# Altium footprint library SamacSys.PcbLib: 35 footprints (part 1 of 3)
Each footprint in its own frame and in the unit in brackets; x right, y up, seen from the top. Pads: shape width x height; smd on the part's side, far side on the other; paste and mask are expansions set on the pad; w line width, h text height; cw(c..) or ccw(c..) is an arc to the next point about the centre after c.
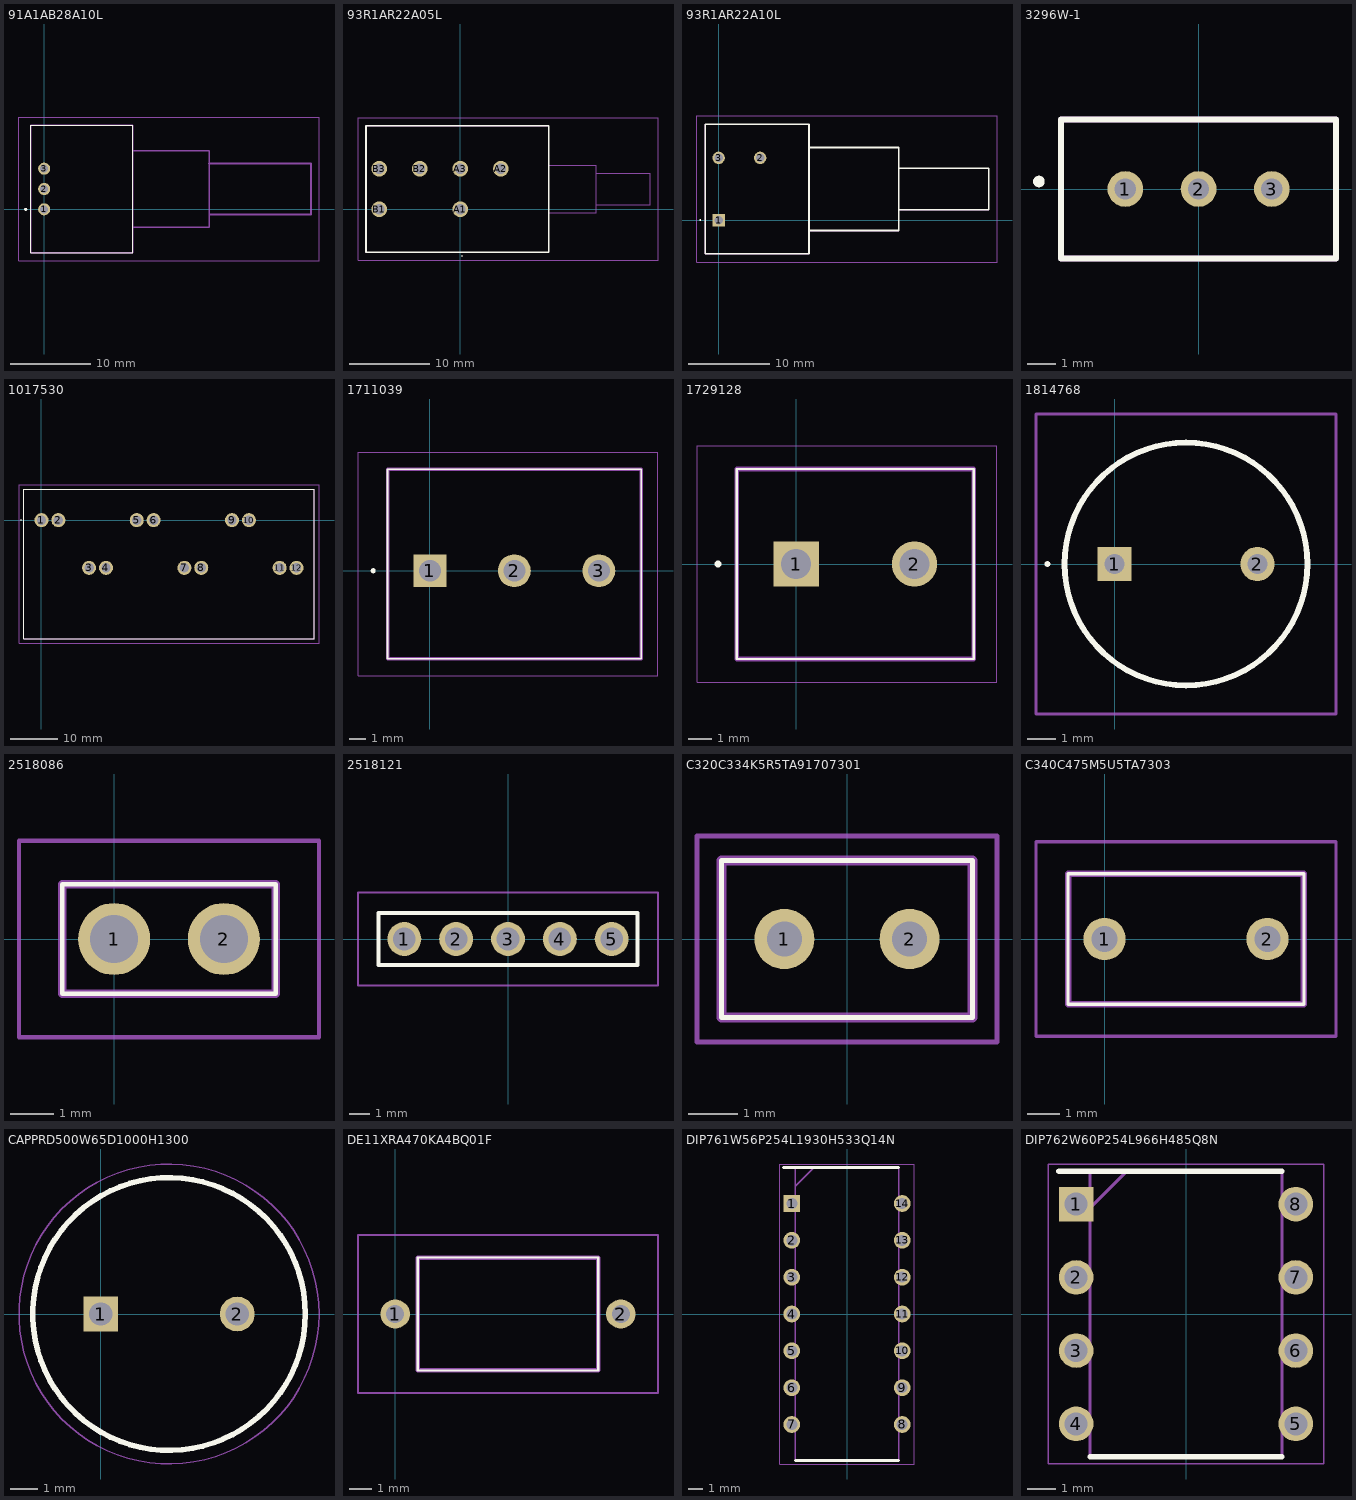
[diagram p0: the footprints below, top view; thin cyan lines are the x and y axes]

## 91A1AB28A10L [mm]
pads (3):
  round 1.515 hole 1.01: 1(0,0) 2(0,2.54) 3(0,5.08)
Top Overlay:
  lines w0.1: -1.65,-5.4 -1.65,10.48 11.05,10.48 11.05,-5.4 -1.65,-5.4
  lines w0.2: -2.3,-0.1 ccw(c-2.3,0) -2.3,0.1 ccw(c-2.3,0) -2.3,-0.1
Mechanical 13:
  lines w0.2: 11.05,-2.225 20.58,-2.225 20.58,7.305 11.05,7.305 ; 20.55,5.715 33.275,5.715 33.275,-0.635 20.58,-0.635 ; -1.65,-5.4 -1.65,10.48 11.05,10.48 11.05,-5.4 -1.65,-5.4
Mechanical 15:
  lines w0.1: -3.135,-6.4 -3.135,11.48 34.275,11.48 34.275,-6.4 -3.135,-6.4
3D body "91A1A-B28-A10L.stp": height 18.1, standoff -14.59, extent -1.895,-5.397 33.03,10.477

## 93R1AR22A05L [mm]
pads (6):
  round 1.965 hole 1.31: A1(0,0) A2(5.08,5.08) A3(0,5.08) B1(-10.16,0) B2(-5.08,5.08) B3(-10.16,5.08)
Top Overlay:
  lines w0.1: 0.15,-5.86 cw(c0.2,-5.86) 0.25,-5.86 cw(c0.2,-5.86) 0.15,-5.86
  lines w0.2: -11.81,-5.4 11.05,-5.4 11.05,10.48 -11.81,10.48 -11.81,-5.4
Mechanical 13:
  lines w0.1: 11.05,-0.46 17.05,-0.46 17.05,5.54 11.05,5.54 ; 17.05,0.54 23.75,0.54 23.75,4.54 17.05,4.54 ; -11.81,-5.4 11.05,-5.4 11.05,10.48 -11.81,10.48 -11.81,-5.4
Mechanical 15:
  lines w0.1: -12.81,-6.4 24.75,-6.4 24.75,11.48 -12.81,11.48 -12.81,-6.4

## 93R1AR22A10L [mm]
pads (3):
  rect 1.515x1.515 hole 1.01: 1(0,0)
  round 1.515 hole 1.01: 2(5.08,7.62) 3(0,7.62)
Top Overlay:
  lines w0.1: -2.3,0 ccw(c-2.25,0) -2.2,0 ccw(c-2.25,0) -2.3,0
  lines w0.2: 11.05,-1.27 22.05,-1.27 22.05,8.89 11.05,8.89 ; 22.05,1.27 33.05,1.27 33.05,6.35 22.05,6.35 ; -1.65,-4.13 11.05,-4.13 11.05,11.75 -1.65,11.75 -1.65,-4.13
Mechanical 13:
  lines w0.1: 11.05,-1.27 22.05,-1.27 22.05,8.89 11.05,8.89 ; 22.05,1.27 33.05,1.27 33.05,6.35 22.05,6.35 ; -1.65,-4.13 11.05,-4.13 11.05,11.75 -1.65,11.75 -1.65,-4.13
Mechanical 15:
  lines w0.1: -2.65,-5.13 34.05,-5.13 34.05,12.75 -2.65,12.75 -2.65,-5.13

## 3296W-1 [mm]
pads (3):
  round 1.24 hole 0.74: 1(-2.54,0) 2(0,0) 3(2.54,0)
Top Overlay:
  circle w0.2: c-5.536,0.26 r0.1
  lines w0.2: -4.765,-2.41 -4.765,2.41 4.765,2.41 4.765,-2.41 -4.765,-2.41
Mechanical 13:
  lines w0.2: -4.765,-2.41 -4.765,2.41 4.765,2.41 4.765,-2.41 -4.765,-2.41
3D body "3296W-1-101LF.stp": height 11.55, standoff -3.01, extent -4.775,-2.476 4.775,2.35

## 1017530 [mm]
pads (12):
  round 3 hole 2: 1(0,0) 2(3.6,0) 3(10.16,-10.16) 4(13.76,-10.16) 5(20.32,0) 6(23.92,0) 7(30.48,-10.16) 8(34.08,-10.16) 9(40.64,0) 10(44.24,0) 11(50.8,-10.16) 12(54.4,-10.16)
Top Overlay:
  lines w0.1: -4.4,0 cw(c-4.35,0) -4.3,0 cw(c-4.35,0) -4.4,0
  lines w0.2: -3.79,-25.3 -3.79,6.6 58.19,6.6 58.19,-25.3 -3.79,-25.3
Mechanical 13:
  lines w0.1: -3.79,-25.3 -3.79,6.6 58.19,6.6 58.19,-25.3 -3.79,-25.3
Mechanical 15:
  lines w0.1: -4.79,-26.3 -4.79,7.6 59.19,7.6 59.19,-26.3 -4.79,-26.3
3D body "1017530.stp": height 31.7, standoff -3, extent -3.79,-25.3 58.19,6.6

## 1711039 [mm]
pads (3):
  rect 1.95x1.95 hole 1.3: 1(0,0)
  round 1.95 hole 1.3: 2(5,0) 3(10,0)
Top Overlay:
  circle w0.2: c-3.35,0 r0.05
  lines w0.1: -2.5,-5.2 12.5,-5.2 12.5,6 -2.5,6 -2.5,-5.2
Mechanical 13:
  lines w0.2: -2.5,-5.2 12.5,-5.2 12.5,6 -2.5,6 -2.5,-5.2
Mechanical 15:
  lines w0.05: -4.25,-6.2 13.5,-6.2 13.5,7 -4.25,7 -4.25,-6.2
3D body "1711039.stp": height 18.53, standoff -4.47, extent -2.43,-5.727 13.14,5.473

## 1729128 [mm]
pads (2):
  rect 1.95x1.95 hole 1.3: 1(0,0)
  round 1.95 hole 1.3: 2(5.08,0)
Top Overlay:
  circle w0.2: c-3.35,0 r0.05
  lines w0.1: -2.54,-4.075 -2.54,4.075 7.62,4.075 7.62,-4.075 -2.54,-4.075
Mechanical 13:
  lines w0.2: -2.54,-4.075 -2.54,4.075 7.62,4.075 7.62,-4.075 -2.54,-4.075
Mechanical 15:
  lines w0.05: -4.25,-5.075 -4.25,5.075 8.62,5.075 8.62,-5.075 -4.25,-5.075
3D body "1729128.stp": height 10.32, standoff -3.18, extent -2.82,-4.05 7.74,4.05

## 1814768 [mm]
pads (2):
  rect 1.2x1.2 hole 0.7: 1(0,0)
  round 1.2 hole 0.7: 2(5,0)
Top Overlay:
  lines w0.1: -2.4,0 cw(c-2.35,0) -2.3,0 cw(c-2.35,0) -2.4,0
  lines w0.2: -1.75,0 ccw(c2.5,0) 6.75,0 ccw(c2.5,0) -1.75,0
Mechanical 13:
  lines w0.1: -1.75,0 ccw(c2.5,0) 6.75,0 ccw(c2.5,0) -1.75,0
Mechanical 15:
  lines w0.1: -2.75,-5.25 7.75,-5.25 7.75,5.25 -2.75,5.25 -2.75,-5.25
3D body "181-4768.stp": height 13.1, standoff -5, extent -1.75,-4.238 6.75,4.238

## 2518086 [mm]
pads (2):
  round 1.665 hole 1.11: 1(0,0) 2(2.54,0)
Top Overlay:
  lines w0.1: -1.2,-1.27 3.74,-1.27 3.74,1.27 -1.2,1.27 -1.2,-1.27
Mechanical 13:
  lines w0.2: -1.2,-1.27 3.74,-1.27 3.74,1.27 -1.2,1.27 -1.2,-1.27
Mechanical 15:
  lines w0.1: -2.2,-2.27 4.74,-2.27 4.74,2.27 -2.2,2.27 -2.2,-2.27
3D body "251-8086.stp": height 9.5, standoff -5, extent -1.2,-1.27 3.74,1.27

## 2518121 [mm]
pads (5):
  round 1.665 hole 1.11: 1(-5.08,0) 2(-2.54,0) 3(0,0) 4(2.54,0) 5(5.08,0)
Top Overlay:
  lines w0.2: -6.35,-1.27 6.35,-1.27 6.35,1.27 -6.35,1.27 -6.35,-1.27
Mechanical 13:
  lines w0.1: -6.35,-1.27 6.35,-1.27 6.35,1.27 -6.35,1.27 -6.35,-1.27
Mechanical 15:
  lines w0.1: -7.35,-2.27 7.35,-2.27 7.35,2.27 -7.35,2.27 -7.35,-2.27
3D body "2518121.stp": height 9.5, standoff -5, extent -6.35,-1.27 6.35,1.27

## C320C334K5R5TA91707301 [mm]
pads (2):
  round 1.217 hole 0.71: 1(-1.27,0) 2(1.27,0)
Top Overlay:
  lines w0.1: -2.54,-1.59 2.54,-1.59 2.54,1.59 -2.54,1.59 -2.54,-1.59
Mechanical 13:
  lines w0.2: -2.54,-1.59 2.54,-1.59 2.54,1.59 -2.54,1.59 -2.54,-1.59
Mechanical 15:
  lines w0.1: -3.04,-2.09 3.04,-2.09 3.04,2.09 -3.04,2.09 -3.04,-2.09
3D body "C320C334K5R5TA91707301.stp": height 5.51, standoff -17.5, extent -2.54,-1.595 2.54,1.59

## C340C475M5U5TA7303 [mm]
pads (2):
  round 1.316 hole 0.81: 1(0,0) 2(5.08,0)
Top Overlay:
  lines w0.1: -1.14,-2.035 6.22,-2.035 6.22,2.035 -1.14,2.035 -1.14,-2.035
Mechanical 13:
  lines w0.2: -1.14,-2.035 6.22,-2.035 6.22,2.035 -1.14,2.035 -1.14,-2.035
Mechanical 15:
  lines w0.1: -2.14,-3.035 7.22,-3.035 7.22,3.035 -2.14,3.035 -2.14,-3.035
3D body "C340C475M5U5TA7303.stp": height 12.7, standoff -18, extent -1.14,-2.035 6.22,2.04

## CAPPRD500W65D1000H1300 [mm]
pads (2):
  rect 1.275x1.275 hole 0.85: 1(0,0)
  round 1.275 hole 0.85: 2(5,0)
Top Overlay:
  circle w0.2: c2.5,0 r5
Mechanical 13:
  circle w0.1: c2.5,0 r5
Mechanical 15:
  circle w0.05: c2.5,0 r5.5
3D body "63SXE100M.stp": height 13, standoff -10, extent -2.75,-5.238 7.75,5.238

## DE11XRA470KA4BQ01F [mm]
pads (2):
  round 1.3 hole 0.8: 1(0,0) 2(10,0)
Top Overlay:
  lines w0.1: 1,-2.5 1,2.5 9,2.5 9,-2.5 1,-2.5
Mechanical 13:
  lines w0.2: 1,-2.5 1,2.5 9,2.5 9,-2.5 1,-2.5
Mechanical 15:
  lines w0.1: -1.65,-3.5 -1.65,3.5 11.65,3.5 11.65,-3.5 -1.65,-3.5
3D body "DE11XRA470KA4BQ01F.stp": height 11.1, standoff -5, extent -0.3,-2.5 10.3,2.5

## DIP761W56P254L1930H533Q14N [mm]
pads (14):
  rect 1.158x1.158 hole 0.758: 1(-3.805,7.62)
  round 1.158 hole 0.758: 2(-3.805,5.08) 3(-3.805,2.54) 4(-3.805,0) 5(-3.805,-2.54) 6(-3.805,-5.08) 7(-3.805,-7.62) 8(3.805,-7.62) 9(3.805,-5.08) 10(3.805,-2.54) 11(3.805,0) 12(3.805,2.54) 13(3.805,5.08) 14(3.805,7.62)
Top Overlay:
  lines w0.2: -4.384,10.095 3.555,10.095 ; -3.555,-10.095 3.555,-10.095
Mechanical 13:
  lines w0.1: -3.555,8.825 -2.285,10.095 ; -3.555,-10.095 -3.555,10.095 3.555,10.095 3.555,-10.095 -3.555,-10.095
Mechanical 15:
  lines w0.05: -4.639,-10.345 -4.639,10.345 4.639,10.345 4.639,-10.345 -4.639,-10.345
3D body "IR2110PBF.stp": height 5.33, standoff -3.5, extent -3.945,-9.653 3.945,9.653

## DIP762W60P254L966H485Q8N [mm]
pads (8):
  rect 1.2x1.2 hole 0.8: 1(-3.81,3.81)
  round 1.2 hole 0.8: 2(-3.81,1.27) 3(-3.81,-1.27) 4(-3.81,-3.81) 5(3.81,-3.81) 6(3.81,-1.27) 7(3.81,1.27) 8(3.81,3.81)
Top Overlay:
  lines w0.2: -4.41,4.955 3.325,4.955 ; -3.325,-4.955 3.325,-4.955
Mechanical 13:
  lines w0.1: -3.325,3.685 -2.055,4.955 ; -3.325,-4.955 3.325,-4.955 3.325,4.955 -3.325,4.955 -3.325,-4.955
Mechanical 15:
  lines w0.05: -4.785,-5.205 4.785,-5.205 4.785,5.205 -4.785,5.205 -4.785,-5.205
3D body "TLP350_F_.stp": height 4.85, standoff -3.5, extent -3.96,-4.83 3.96,4.83